# Altium footprint library connectors.PcbLib: 68 footprints (part 4 of 5)
Each footprint in its own frame and in the unit in brackets; x right, y up, seen from the top. Pads: shape width x height; smd on the part's side, far side on the other; paste and mask are expansions set on the pad; w line width, h text height; cw(c..) or ccw(c..) is an arc to the next point about the centre after c.
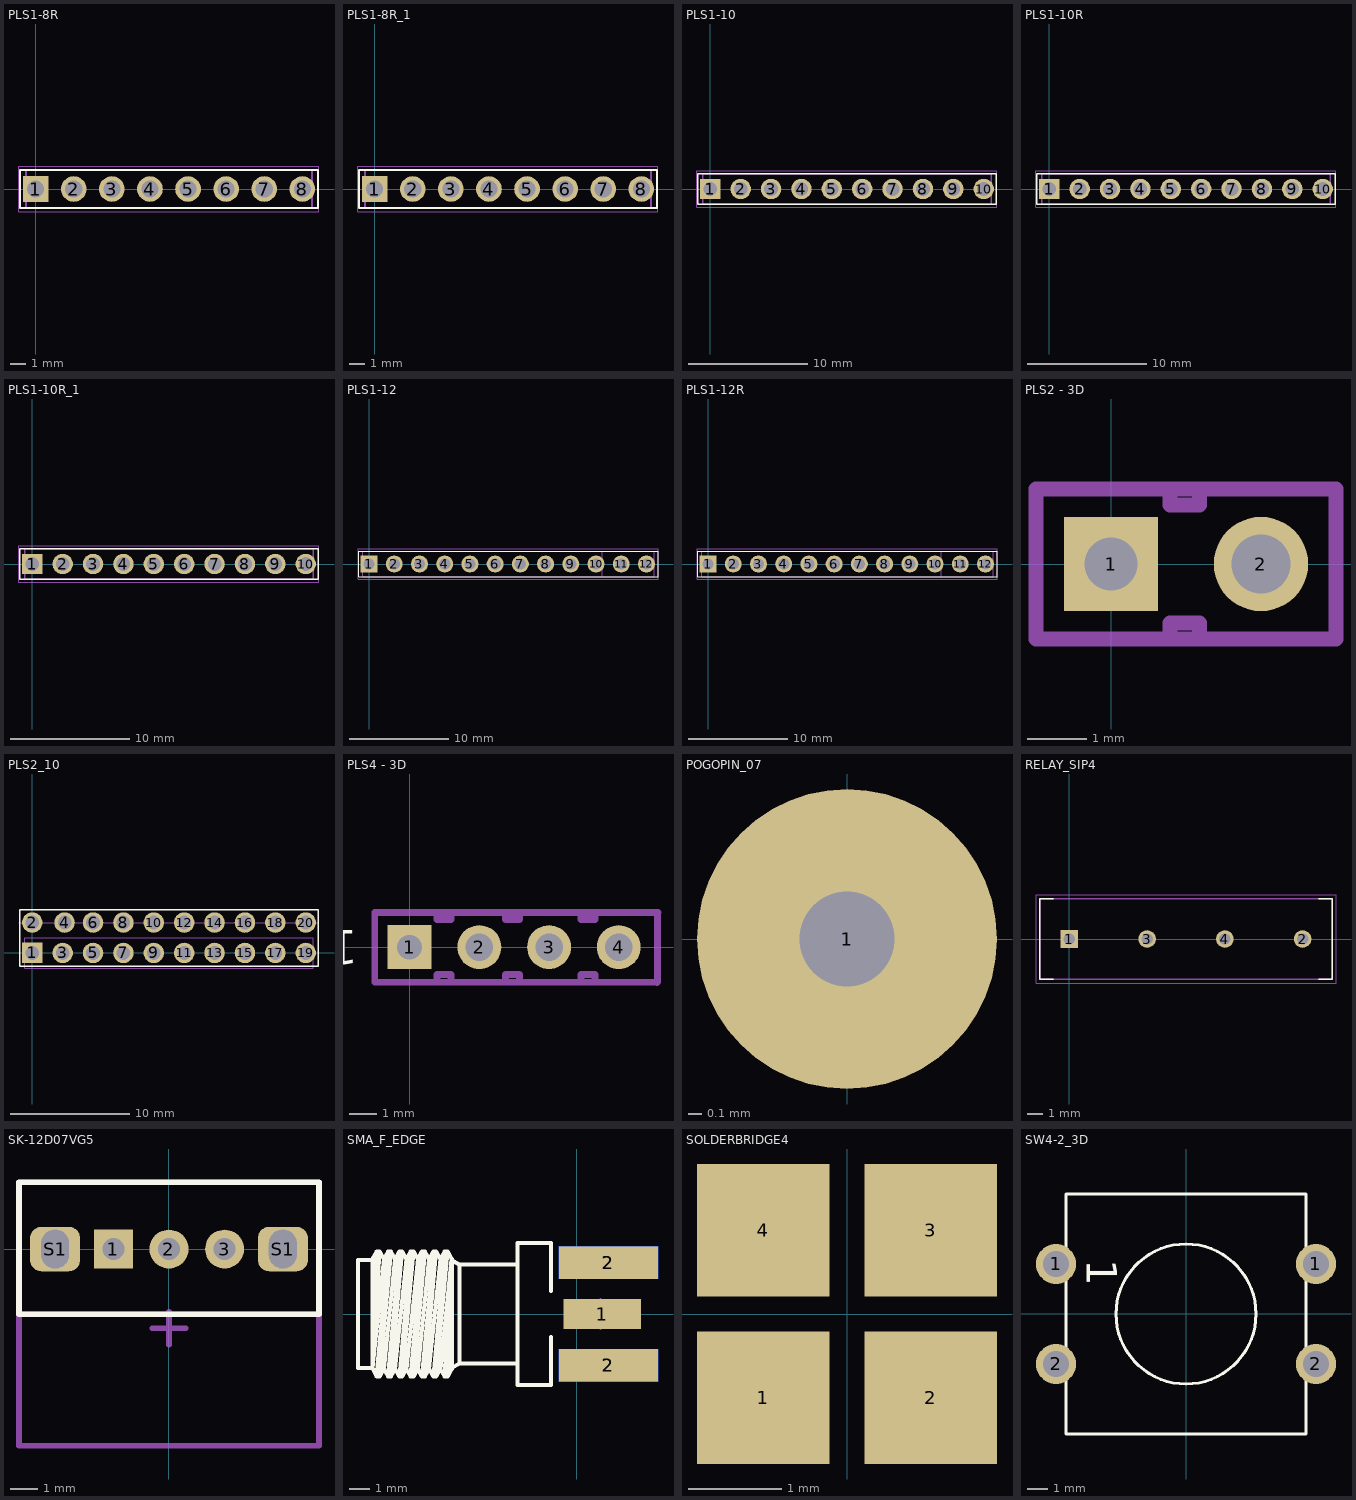
[diagram p3: the footprints below, top view; thin cyan lines are the x and y axes]

## PLS1-8R [mm] "Header, Vertical, 2.54 mm pitch; 0.70 mm lead width, 8 pins, 1 row, 8 pins per row, 19.05 mm L X 2.54 mm W X 7.54 mm H body"
height 7.54
pads (8):
  rect 1.71x1.71 hole 1.14 paste-2539.97: 1(0,0)
  round 1.71 hole 1.14 paste-2539.97: 2(2.54,0) 3(5.08,0) 4(7.62,0) 5(10.16,0) 6(12.7,0) 7(15.24,0) 8(17.78,0)
Top Overlay:
  lines w0.12: -1.04,-1.27 -1.04,1.27 18.82,1.27 18.82,-1.27 -1.04,-1.27
Mechanical 11:
  lines w0.12: -0.64,-1.27 -0.64,1.27 18.42,1.27 18.42,-1.27 -0.64,-1.27
Mechanical 12:
  lines w0.025: -0.635,-1.27 -0.635,1.27 18.415,1.27 18.415,-1.27 -0.635,-1.27 ; -0.35,-0.35 -0.35,0.35 0.35,0.35 0.35,-0.35 -0.35,-0.35 ; 2.19,-0.35 2.19,0.35 2.89,0.35 2.89,-0.35 2.19,-0.35 ; 4.73,-0.35 4.73,0.35 5.43,0.35 5.43,-0.35 4.73,-0.35 ; 7.27,-0.35 7.27,0.35 7.97,0.35 7.97,-0.35 7.27,-0.35 ; 9.81,-0.35 9.81,0.35 10.51,0.35 10.51,-0.35 9.81,-0.35 ; 12.35,-0.35 12.35,0.35 13.05,0.35 13.05,-0.35 12.35,-0.35 ; 14.89,-0.35 14.89,0.35 15.59,0.35 15.59,-0.35 14.89,-0.35 ; 17.43,-0.35 17.43,0.35 18.13,0.35 18.13,-0.35 17.43,-0.35
Mechanical 15:
  circle w0.05: c0,0 r0.25
  lines w0.05: -0.35,0 0.35,0 ; 0,-0.35 0,0.35 ; -1.11,-1.52 -1.11,1.52 18.89,1.52 18.89,-1.52 -1.11,-1.52
3D body "PinHeader_1x08_P2.54mm_Horizontal.step": height 2.54, standoff -3, extent -1.27,-10.04 19.05,0.32

## PLS1-8R_1 [mm] "Header, Vertical, 2.54 mm pitch; 0.70 mm lead width, 8 pins, 1 row, 8 pins per row, 19.05 mm L X 2.54 mm W X 7.54 mm H body"
height 7.54
pads (8):
  rect 1.71x1.71 hole 1.14 paste-2539.97: 1(0,0)
  round 1.71 hole 1.14 paste-2539.97: 2(2.54,0) 3(5.08,0) 4(7.62,0) 5(10.16,0) 6(12.7,0) 7(15.24,0) 8(17.78,0)
Top Overlay:
  lines w0.12: -1.04,-1.27 18.82,-1.27 18.82,1.27 -1.04,1.27 -1.04,-1.27
Mechanical 11:
  lines w0.12: -0.64,-1.27 18.42,-1.27 18.42,1.27 -0.64,1.27 -0.64,-1.27
Mechanical 12:
  lines w0.025: -0.635,-1.27 18.415,-1.27 18.415,1.27 -0.635,1.27 -0.635,-1.27 ; -0.35,-0.35 0.35,-0.35 0.35,0.35 -0.35,0.35 -0.35,-0.35 ; 2.19,-0.35 2.89,-0.35 2.89,0.35 2.19,0.35 2.19,-0.35 ; 4.73,-0.35 5.43,-0.35 5.43,0.35 4.73,0.35 4.73,-0.35 ; 7.27,-0.35 7.97,-0.35 7.97,0.35 7.27,0.35 7.27,-0.35 ; 9.81,-0.35 10.51,-0.35 10.51,0.35 9.81,0.35 9.81,-0.35 ; 12.35,-0.35 13.05,-0.35 13.05,0.35 12.35,0.35 12.35,-0.35 ; 14.89,-0.35 15.59,-0.35 15.59,0.35 14.89,0.35 14.89,-0.35 ; 17.43,-0.35 18.13,-0.35 18.13,0.35 17.43,0.35 17.43,-0.35
Mechanical 15:
  circle w0.05: c0,0 r0.25
  lines w0.05: -0.35,0 0.35,0 ; 0,-0.35 0,0.35 ; -1.11,-1.52 18.89,-1.52 18.89,1.52 -1.11,1.52 -1.11,-1.52
3D body "PinHeader_1x08_P2.54mm_Horizontal.step": height 2.54, standoff -3, extent -1.27,-0.32 19.05,10.04

## PLS1-10 [mm] "Header, Vertical, 2.54 mm pitch; 0.70 mm lead width, 10 pins, 1 row, 10 pins per row, 24.13 mm L X 2.54 mm W X 7.54 mm H body"
height 7.54
pads (10):
  rect 1.71x1.71 hole 1.14 paste-2539.97: 1(0,0)
  round 1.71 hole 1.14 paste-2539.97: 2(2.54,0) 3(5.08,0) 4(7.62,0) 5(10.16,0) 6(12.7,0) 7(15.24,0) 8(17.78,0) 9(20.32,0) 10(22.86,0)
Top Overlay:
  lines w0.12: -1.04,-1.27 -1.04,1.27 23.9,1.27 23.9,-1.27 -1.04,-1.27
Mechanical 11:
  lines w0.12: -0.64,-1.27 -0.64,1.27 23.5,1.27 23.5,-1.27 -0.64,-1.27
Mechanical 12:
  lines w0.025: -0.635,-1.27 -0.635,1.27 23.495,1.27 23.495,-1.27 -0.635,-1.27 ; -0.35,-0.35 -0.35,0.35 0.35,0.35 0.35,-0.35 -0.35,-0.35 ; 2.19,-0.35 2.19,0.35 2.89,0.35 2.89,-0.35 2.19,-0.35 ; 4.73,-0.35 4.73,0.35 5.43,0.35 5.43,-0.35 4.73,-0.35 ; 7.27,-0.35 7.27,0.35 7.97,0.35 7.97,-0.35 7.27,-0.35 ; 9.81,-0.35 9.81,0.35 10.51,0.35 10.51,-0.35 9.81,-0.35 ; 12.35,-0.35 12.35,0.35 13.05,0.35 13.05,-0.35 12.35,-0.35 ; 14.89,-0.35 14.89,0.35 15.59,0.35 15.59,-0.35 14.89,-0.35 ; 17.43,-0.35 17.43,0.35 18.13,0.35 18.13,-0.35 17.43,-0.35 ; 19.97,-0.35 19.97,0.35 20.67,0.35 20.67,-0.35 19.97,-0.35 ; 22.51,-0.35 22.51,0.35 23.21,0.35 23.21,-0.35 22.51,-0.35
Mechanical 15:
  circle w0.05: c0,0 r0.25
  lines w0.05: -0.35,0 0.35,0 ; 0,-0.35 0,0.35 ; -1.11,-1.52 -1.11,1.52 23.97,1.52 23.97,-1.52 -1.11,-1.52
3D body "HDRV10W70P254_10X1_2413X254H754.STEP": height 7.54, standoff -2.3, extent -0.635,-1.27 23.495,1.27

## PLS1-10R [mm] "Header, Vertical, 2.54 mm pitch; 0.70 mm lead width, 10 pins, 1 row, 10 pins per row, 24.13 mm L X 2.54 mm W X 7.54 mm H body"
height 7.54
pads (10):
  rect 1.71x1.71 hole 1.14 paste-2539.97: 1(0,0)
  round 1.71 hole 1.14 paste-2539.97: 2(2.54,0) 3(5.08,0) 4(7.62,0) 5(10.16,0) 6(12.7,0) 7(15.24,0) 8(17.78,0) 9(20.32,0) 10(22.86,0)
Top Overlay:
  lines w0.12: -1.04,-1.27 -1.04,1.27 23.9,1.27 23.9,-1.27 -1.04,-1.27
Mechanical 11:
  lines w0.12: -0.64,-1.27 -0.64,1.27 23.5,1.27 23.5,-1.27 -0.64,-1.27
Mechanical 12:
  lines w0.025: -0.635,-1.27 -0.635,1.27 23.495,1.27 23.495,-1.27 -0.635,-1.27 ; -0.35,-0.35 -0.35,0.35 0.35,0.35 0.35,-0.35 -0.35,-0.35 ; 2.19,-0.35 2.19,0.35 2.89,0.35 2.89,-0.35 2.19,-0.35 ; 4.73,-0.35 4.73,0.35 5.43,0.35 5.43,-0.35 4.73,-0.35 ; 7.27,-0.35 7.27,0.35 7.97,0.35 7.97,-0.35 7.27,-0.35 ; 9.81,-0.35 9.81,0.35 10.51,0.35 10.51,-0.35 9.81,-0.35 ; 12.35,-0.35 12.35,0.35 13.05,0.35 13.05,-0.35 12.35,-0.35 ; 14.89,-0.35 14.89,0.35 15.59,0.35 15.59,-0.35 14.89,-0.35 ; 17.43,-0.35 17.43,0.35 18.13,0.35 18.13,-0.35 17.43,-0.35 ; 19.97,-0.35 19.97,0.35 20.67,0.35 20.67,-0.35 19.97,-0.35 ; 22.51,-0.35 22.51,0.35 23.21,0.35 23.21,-0.35 22.51,-0.35
Mechanical 15:
  circle w0.05: c0,0 r0.25
  lines w0.05: -0.35,0 0.35,0 ; 0,-0.35 0,0.35 ; -1.11,-1.52 -1.11,1.52 23.97,1.52 23.97,-1.52 -1.11,-1.52
3D body "PinHeader_1x10_P2.54mm_Horizontal.step": height 2.54, standoff -3, extent -1.27,-10.04 24.13,0.32

## PLS1-10R_1 [mm] "Header, Vertical, 2.54 mm pitch; 0.70 mm lead width, 10 pins, 1 row, 10 pins per row, 24.13 mm L X 2.54 mm W X 7.54 mm H body"
height 7.54
pads (10):
  rect 1.71x1.71 hole 1.14 paste-2539.97: 1(0,0)
  round 1.71 hole 1.14 paste-2539.97: 2(2.54,0) 3(5.08,0) 4(7.62,0) 5(10.16,0) 6(12.7,0) 7(15.24,0) 8(17.78,0) 9(20.32,0) 10(22.86,0)
Top Overlay:
  lines w0.12: -1.04,-1.27 23.9,-1.27 23.9,1.27 -1.04,1.27 -1.04,-1.27
Mechanical 11:
  lines w0.12: -0.64,-1.27 23.5,-1.27 23.5,1.27 -0.64,1.27 -0.64,-1.27
Mechanical 12:
  lines w0.025: -0.635,-1.27 23.495,-1.27 23.495,1.27 -0.635,1.27 -0.635,-1.27 ; -0.35,-0.35 0.35,-0.35 0.35,0.35 -0.35,0.35 -0.35,-0.35 ; 2.19,-0.35 2.89,-0.35 2.89,0.35 2.19,0.35 2.19,-0.35 ; 4.73,-0.35 5.43,-0.35 5.43,0.35 4.73,0.35 4.73,-0.35 ; 7.27,-0.35 7.97,-0.35 7.97,0.35 7.27,0.35 7.27,-0.35 ; 9.81,-0.35 10.51,-0.35 10.51,0.35 9.81,0.35 9.81,-0.35 ; 12.35,-0.35 13.05,-0.35 13.05,0.35 12.35,0.35 12.35,-0.35 ; 14.89,-0.35 15.59,-0.35 15.59,0.35 14.89,0.35 14.89,-0.35 ; 17.43,-0.35 18.13,-0.35 18.13,0.35 17.43,0.35 17.43,-0.35 ; 19.97,-0.35 20.67,-0.35 20.67,0.35 19.97,0.35 19.97,-0.35 ; 22.51,-0.35 23.21,-0.35 23.21,0.35 22.51,0.35 22.51,-0.35
Mechanical 15:
  circle w0.05: c0,0 r0.25
  lines w0.05: -0.35,0 0.35,0 ; 0,-0.35 0,0.35 ; -1.11,-1.52 23.97,-1.52 23.97,1.52 -1.11,1.52 -1.11,-1.52
3D body "PinHeader_1x10_P2.54mm_Horizontal.step": height 2.54, standoff -3, extent -1.27,-0.32 24.13,10.04

## PLS1-12 [mm] "Header, Vertical, 2.54 mm pitch; 0.70 mm lead width, 10 pins, 1 row, 10 pins per row, 24.13 mm L X 2.54 mm W X 7.54 mm H body"
height 7.54
pads (12):
  rect 1.71x1.71 hole 1.14 paste-2539.97: 1(0,0)
  round 1.71 hole 1.14 paste-2539.97: 2(2.54,0) 3(5.08,0) 4(7.62,0) 5(10.16,0) 6(12.7,0) 7(15.24,0) 8(17.78,0) 9(20.32,0) 10(22.86,0) 11(25.4,0) 12(27.94,0)
Top Overlay:
  lines w0.12: -1.04,-1.27 29.1,-1.27 29.1,1.27 -1.04,1.27 -1.04,-1.27
Mechanical 11:
  lines w0.12: -0.64,-1.27 28.7,-1.27 28.7,1.27 -0.64,1.27 -0.64,-1.27
Mechanical 12:
  lines w0.025: -0.635,-1.27 23.495,-1.27 23.495,1.27 -0.635,1.27 -0.635,-1.27 ; -0.35,-0.35 0.35,-0.35 0.35,0.35 -0.35,0.35 -0.35,-0.35 ; 2.19,-0.35 2.89,-0.35 2.89,0.35 2.19,0.35 2.19,-0.35 ; 4.73,-0.35 5.43,-0.35 5.43,0.35 4.73,0.35 4.73,-0.35 ; 7.27,-0.35 7.97,-0.35 7.97,0.35 7.27,0.35 7.27,-0.35 ; 9.81,-0.35 10.51,-0.35 10.51,0.35 9.81,0.35 9.81,-0.35 ; 12.35,-0.35 13.05,-0.35 13.05,0.35 12.35,0.35 12.35,-0.35 ; 14.89,-0.35 15.59,-0.35 15.59,0.35 14.89,0.35 14.89,-0.35 ; 17.43,-0.35 18.13,-0.35 18.13,0.35 17.43,0.35 17.43,-0.35 ; 19.97,-0.35 20.67,-0.35 20.67,0.35 19.97,0.35 19.97,-0.35 ; 22.51,-0.35 23.21,-0.35 23.21,0.35 22.51,0.35 22.51,-0.35
Mechanical 15:
  circle w0.05: c0,0 r0.25
  lines w0.05: -0.35,0 0.35,0 ; 0,-0.35 0,0.35 ; -1.11,-1.52 29.1,-1.52 29.1,1.52 -1.11,1.52 -1.11,-1.52
3D body "PinHeader_1x12_P2.54mm_Vertical.step": height 3, standoff -8.54, extent -1.27,-1.27 29.21,1.27

## PLS1-12R [mm] "Header, Vertical, 2.54 mm pitch; 0.70 mm lead width, 10 pins, 1 row, 10 pins per row, 24.13 mm L X 2.54 mm W X 7.54 mm H body"
height 7.54
pads (12):
  rect 1.71x1.71 hole 1.14 paste-2539.97: 1(0,0)
  round 1.71 hole 1.14 paste-2539.97: 2(2.54,0) 3(5.08,0) 4(7.62,0) 5(10.16,0) 6(12.7,0) 7(15.24,0) 8(17.78,0) 9(20.32,0) 10(22.86,0) 11(25.4,0) 12(27.94,0)
Top Overlay:
  lines w0.12: -1.04,-1.27 -1.04,1.27 29.1,1.27 29.1,-1.27 -1.04,-1.27
Mechanical 11:
  lines w0.12: -0.64,-1.27 -0.64,1.27 28.7,1.27 28.7,-1.27 -0.64,-1.27
Mechanical 12:
  lines w0.025: -0.635,-1.27 -0.635,1.27 23.495,1.27 23.495,-1.27 -0.635,-1.27 ; -0.35,-0.35 -0.35,0.35 0.35,0.35 0.35,-0.35 -0.35,-0.35 ; 2.19,-0.35 2.19,0.35 2.89,0.35 2.89,-0.35 2.19,-0.35 ; 4.73,-0.35 4.73,0.35 5.43,0.35 5.43,-0.35 4.73,-0.35 ; 7.27,-0.35 7.27,0.35 7.97,0.35 7.97,-0.35 7.27,-0.35 ; 9.81,-0.35 9.81,0.35 10.51,0.35 10.51,-0.35 9.81,-0.35 ; 12.35,-0.35 12.35,0.35 13.05,0.35 13.05,-0.35 12.35,-0.35 ; 14.89,-0.35 14.89,0.35 15.59,0.35 15.59,-0.35 14.89,-0.35 ; 17.43,-0.35 17.43,0.35 18.13,0.35 18.13,-0.35 17.43,-0.35 ; 19.97,-0.35 19.97,0.35 20.67,0.35 20.67,-0.35 19.97,-0.35 ; 22.51,-0.35 22.51,0.35 23.21,0.35 23.21,-0.35 22.51,-0.35
Mechanical 15:
  circle w0.05: c0,0 r0.25
  lines w0.05: -0.35,0 0.35,0 ; 0,-0.35 0,0.35 ; -1.11,-1.52 -1.11,1.52 29.1,1.52 29.1,-1.52 -1.11,-1.52
3D body "PinHeader_1x12_P2.54mm_Horizontal.step": height 2.54, standoff -3, extent -1.27,-0.32 29.21,10.04

## PLS2 - 3D [mm]
pads (2):
  rect 1.6x1.6 hole 0.9: 1(0,0)
  round 1.6 hole 1: 2(2.54,0)
Top Assembly:
  lines w0.254: 1,-1.25 1,-1 1.5,-1 1.5,-1.25 ; 1,1.25 1,1 1.5,1 1.5,1.25 ; -1.27,-1.27 -1.27,1.27 3.81,1.27 3.81,-1.27 -1.27,-1.27
3D body "PLS-2.STEP": height 8.8, standoff -3, extent -1.27,-1.27 3.81,1.27

## PLS2_10 [mm] "Header, Vertical, 2.54 mm pitch; 0.70 mm lead width, 10 pins, 1 row, 10 pins per row, 24.13 mm L X 2.54 mm W X 7.54 mm H body"
height 7.54
pads (20):
  rect 1.71x1.71 hole 1.14 paste-2539.97: 1(0,0)
  round 1.71 hole 1.14 paste-2539.97: 2(0,2.54) 3(2.54,0) 4(2.7,2.54) 5(5.08,0) 6(5.08,2.54) 7(7.62,0) 8(7.62,2.54) 9(10.16,0) 10(10.16,2.54) 11(12.7,0) 12(12.7,2.54) 13(15.24,0) 14(15.24,2.54) 15(17.78,0) 16(17.78,2.54) 17(20.32,0) 18(20.32,2.54) 19(22.86,0) 20(22.86,2.54)
Top Overlay:
  lines w0.12: -1.04,-1.1 -1.04,3.6 23.9,3.6 23.9,-1.1 -1.04,-1.1
Mechanical 12:
  lines w0.025: -0.635,-1.27 -0.635,1.27 23.495,1.27 23.495,-1.27 -0.635,-1.27 ; -0.35,-0.35 -0.35,0.35 0.35,0.35 0.35,-0.35 -0.35,-0.35 ; 2.19,-0.35 2.19,0.35 2.89,0.35 2.89,-0.35 2.19,-0.35 ; 4.73,-0.35 4.73,0.35 5.43,0.35 5.43,-0.35 4.73,-0.35 ; 7.27,-0.35 7.27,0.35 7.97,0.35 7.97,-0.35 7.27,-0.35 ; 9.81,-0.35 9.81,0.35 10.51,0.35 10.51,-0.35 9.81,-0.35 ; 12.35,-0.35 12.35,0.35 13.05,0.35 13.05,-0.35 12.35,-0.35 ; 14.89,-0.35 14.89,0.35 15.59,0.35 15.59,-0.35 14.89,-0.35 ; 17.43,-0.35 17.43,0.35 18.13,0.35 18.13,-0.35 17.43,-0.35 ; 19.97,-0.35 19.97,0.35 20.67,0.35 20.67,-0.35 19.97,-0.35 ; 22.51,-0.35 22.51,0.35 23.21,0.35 23.21,-0.35 22.51,-0.35
Mechanical 15:
  circle w0.05: c0,0 r0.25
  lines w0.05: -1.11,2.54 23.97,2.54 ; -0.35,0 0.35,0 ; 0,-0.35 0,0.35
3D body "PinHeader_2x10_P2.54mm_Vertical.step": height 8.54, standoff -3, extent -1.27,-1.27 24.13,3.81

## PLS4 - 3D [mm]
pads (4):
  rect 1.6x1.6 hole 0.9: 1(0,0)
  round 1.6 hole 1: 2(2.54,0) 3(5.08,0) 4(7.62,0)
Top Overlay:
  text "1" at -1.88,0.625 h1.25
Top Assembly:
  lines w0.254: 1,-1.25 1,-1 1.5,-1 1.5,-1.25 ; 1,1.25 1,1 1.5,1 1.5,1.25 ; 3.5,-1.25 3.5,-1 4,-1 4,-1.25 ; 3.5,1.25 3.5,1 4,1 4,1.25 ; 6.25,-1.25 6.25,-1 6.75,-1 6.75,-1.25 ; 6.25,1.25 6.25,1 6.75,1 6.75,1.25 ; 9.02,-1.28 -1.27,-1.27 -1.27,1.27 9.05,1.27 ; 9.03,-1.27 9.03,1.27
3D body "PLS-4.STEP": height 8.8, standoff -3, extent -1.27,-1.27 8.89,1.27

## POGOPIN_07 [mm]
pads (1):
  round 2.2 hole 0.7: 1(0,0)
3D body "Pogo_pins_P75-B1.stp": height 15, standoff -1.44, extent -0.506,-0.509 0.51,0.509

## RELAY_SIP4 [mm] "SIP, 5.08 mm pitch; 4 pin, 19.10 mm L X 5.25 mm W X 8.10 mm H body"
height 8.1
pads (4):
  rect 1.15x1.15 hole 0.75 paste-2539.97: 1(0,0)
  round 1.15 hole 0.75 paste-2539.97: 2(15.24,0) 3(5.08,0) 4(10.16,0)
Top Overlay:
  lines w0.12: -1.08,-2.63 -1.93,-2.63 -1.93,2.63 -1.08,2.63 ; 16.32,-2.63 17.17,-2.63 17.17,2.63 16.32,2.63
Mechanical 11:
  lines w0.12: -1.93,-2.63 -1.93,2.63 17.17,2.63 17.17,-2.63 -1.93,-2.63
Mechanical 12:
  lines w0.025: -1.93,-2.625 -1.93,2.625 17.17,2.625 17.17,-2.625 -1.93,-2.625 ; -0.255,-0.155 0.255,-0.155 0.255,0.155 -0.255,0.155 -0.255,-0.155 ; 4.825,-0.155 5.335,-0.155 5.335,0.155 4.825,0.155 4.825,-0.155 ; 9.905,-0.155 10.415,-0.155 10.415,0.155 9.905,0.155 9.905,-0.155 ; 14.985,-0.155 15.495,-0.155 15.495,0.155 14.985,0.155 14.985,-0.155
Mechanical 15:
  circle w0.05: c0,0 r0.25
  lines w0.05: -0.35,0 0.35,0 ; 0,-0.35 0,0.35 ; -2.18,-2.88 -2.18,2.88 17.42,2.88 17.42,-2.88 -2.18,-2.88
3D body "SIP525W46P508L1910H810Q4.STEP": height 8.1, standoff -2, extent -1.93,-2.625 17.17,2.625

## SK-12D07VG5 [mm]
pads (5):
  rect 1.4x1.4 hole 0.8: 1(-2,0)
  round 1.4 hole 0.8: 2(0,0) 3(2,0)
  rrect50% 1.8x1.6 hole 1 slot 1.4 at 90 deg: S1(-4.1,0) S1(4.1,0)
Top Overlay:
  lines w0.2: -5.4,-2.35 5.4,-2.35 5.4,2.4 -5.4,2.4 -5.4,-2.35
Top Assembly:
  lines w0.2: -5.4,-2.35 5.4,-2.35 ; -5.4,-2.15 -5.4,-7.075 5.4,-7.075 5.4,-2.15 ; -5.4,-1.884 -5.4,2.4 5.4,2.4 ; -0.6,-2.85 0.6,-2.85 ; 0,-3.45 0,-2.25 ; 5.4,-1.851 5.4,2.15
3D body "SK-12Do7-VG 4 NS PA (2).STEP": height 4.75, standoff -2.65, extent -4.3,-7.05 4.3,2.3

## SMA_F_EDGE [mm] "SMA End Launch Jack for 1.58mm PCB, 50 Ohm, Flat Tab Contact"
height 7.92
pads (5):
  rect 3.81x1.5 smd: 1(1.27,0)
  rect 4.9x1.6 smd far side: 2(1.575,-2.54) 2(1.575,2.54)
  rect 4.9x1.6 smd: 2(1.575,-2.54) 2(1.575,2.54)
Top Overlay:
  lines w0.2: -10.09,2.665 -10.805,2.665 -10.805,-2.665 -10.09,-2.665 ; -6.17,-2.665 -5.795,-2.453 ; -2.925,-2.453 -5.795,-2.453 ; -2.925,2.447 -5.795,2.447 ; -1.275,-1.137 -1.275,-3.5 -2.925,-3.5 -2.925,3.5 -1.275,3.5 -1.275,1.137 ; -10.09,-2.665 -10.09,2.715 -9.879,3.094 ; -10.09,-2.665 -9.879,-3.094 ; -10.09,-2.665 -9.53,2.715 ; -10.09,-2.665 -9.741,3.094 ; -10.09,-2.665 -9.879,3.094 ; -9.879,-3.094 -9.741,-3.094 ; -9.879,-3.094 -9.319,3.094 ; -9.879,3.094 -9.741,3.094 ; -9.741,-3.094 -9.53,-2.715 ; -9.741,-3.094 -9.181,3.094 ; -9.741,3.094 -9.53,2.715 ; -9.53,-2.715 -9.319,-3.094 ; -9.53,-2.715 -8.97,2.715 ; -9.53,2.715 -9.319,3.094 ; -9.319,-3.094 -9.181,-3.094 ; -9.319,-3.094 -8.759,3.094 ; -9.319,3.094 -9.181,3.094 ; -9.181,-3.094 -8.97,-2.715 ; -9.181,-3.094 -8.621,3.094 ; -9.181,3.094 -8.97,2.715 ; -8.97,-2.715 -8.759,-3.094 ; -8.97,-2.715 -8.41,2.715 ; -8.97,2.715 -8.759,3.094 ; -8.759,-3.094 -8.621,-3.094 ; -8.759,-3.094 -8.199,3.094 ; -8.759,3.094 -8.621,3.094 ; -8.621,-3.094 -8.41,-2.715 ; -8.621,-3.094 -8.061,3.094 ; -8.621,3.094 -8.41,2.715 ; -8.41,-2.715 -8.199,-3.094 ; -8.41,-2.715 -7.85,2.715 ; -8.41,2.715 -8.199,3.094 ; -8.199,-3.094 -8.061,-3.094 ; -8.199,-3.094 -7.639,3.094 ; -8.199,3.094 -8.061,3.094 ; -8.061,-3.094 -7.85,-2.715 ; -8.061,-3.094 -7.501,3.094 ; -8.061,3.094 -7.85,2.715 ; -7.85,-2.715 -7.639,-3.094 ; -7.85,-2.715 -7.29,2.715 ; -7.85,2.715 -7.639,3.094 ; -7.639,-3.094 -7.501,-3.094 ; -7.639,-3.094 -7.079,3.094 ; -7.639,3.094 -7.501,3.094 ; -7.501,-3.094 -7.29,-2.715 ; -7.501,-3.094 -6.941,3.094 ; -7.501,3.094 -7.29,2.715 ; -7.29,-2.715 -7.079,-3.094 ; -7.29,-2.715 -6.73,2.715 ; -7.29,2.715 -7.079,3.094 ; -7.079,-3.094 -6.941,-3.094 ; -7.079,-3.094 -6.519,3.094 ; -7.079,3.094 -6.941,3.094 ; -6.941,-3.094 -6.73,-2.715 ; -6.941,-3.094 -6.381,3.094 ; -6.941,3.094 -6.73,2.715 ; -6.73,-2.715 -6.519,-3.094 ; -6.73,-2.715 -6.17,2.713 ; -6.73,2.715 -6.519,3.094 ; -6.519,-3.094 -6.381,-3.094 ; -6.519,-3.094 -6.17,2.713 ; -6.519,3.094 -6.381,3.094 ; -6.381,-3.094 -6.17,-2.715 -6.17,2.713 ; -6.381,-3.094 -6.17,2.665 -5.795,2.447 ; -6.381,3.094 -6.17,2.713 ; -5.795,-2.453 -5.795,2.447
Bottom Assembly:
  lines w0.1: -0.5,0 0,0 ; 0,-0.5 0,0 ; 0,0.5 0,0 ; 0.5,0 0,0 ; 1.175,-0.75 1.175,0.75
Mechanical 14:
  lines w0.1: -10.09,2.665 -10.805,2.665 -10.805,-2.665 -10.09,-2.665 ; -6.17,-2.665 -5.795,-2.453 ; -2.925,-2.453 -5.795,-2.453 ; -2.925,2.447 -5.795,2.447 ; 0.635,-0.251 0.635,0.251 ; -10.09,-2.665 -10.09,2.715 -9.879,3.094 ; -10.09,-2.665 -9.879,-3.094 ; -10.09,-2.665 -9.53,2.715 ; -10.09,-2.665 -9.741,3.094 ; -10.09,-2.665 -9.879,3.094 ; -9.879,-3.094 -9.741,-3.094 ; -9.879,-3.094 -9.319,3.094 ; -9.879,3.094 -9.741,3.094 ; -9.741,-3.094 -9.53,-2.715 ; -9.741,-3.094 -9.181,3.094 ; -9.741,3.094 -9.53,2.715 ; -9.53,-2.715 -9.319,-3.094 ; -9.53,-2.715 -8.97,2.715 ; -9.53,2.715 -9.319,3.094 ; -9.319,-3.094 -9.181,-3.094 ; -9.319,-3.094 -8.759,3.094 ; -9.319,3.094 -9.181,3.094 ; -9.181,-3.094 -8.97,-2.715 ; -9.181,-3.094 -8.621,3.094 ; -9.181,3.094 -8.97,2.715 ; -8.97,-2.715 -8.759,-3.094 ; -8.97,-2.715 -8.41,2.715 ; -8.97,2.715 -8.759,3.094 ; -8.759,-3.094 -8.621,-3.094 ; -8.759,-3.094 -8.199,3.094 ; -8.759,3.094 -8.621,3.094 ; -8.621,-3.094 -8.41,-2.715 ; -8.621,-3.094 -8.061,3.094 ; -8.621,3.094 -8.41,2.715 ; -8.41,-2.715 -8.199,-3.094 ; -8.41,-2.715 -7.85,2.715 ; -8.41,2.715 -8.199,3.094 ; -8.199,-3.094 -8.061,-3.094 ; -8.199,-3.094 -7.639,3.094 ; -8.199,3.094 -8.061,3.094 ; -8.061,-3.094 -7.85,-2.715 ; -8.061,-3.094 -7.501,3.094 ; -8.061,3.094 -7.85,2.715 ; -7.85,-2.715 -7.639,-3.094 ; -7.85,-2.715 -7.29,2.715 ; -7.85,2.715 -7.639,3.094 ; -7.639,-3.094 -7.501,-3.094 ; -7.639,-3.094 -7.079,3.094 ; -7.639,3.094 -7.501,3.094 ; -7.501,-3.094 -7.29,-2.715 ; -7.501,-3.094 -6.941,3.094 ; -7.501,3.094 -7.29,2.715 ; -7.29,-2.715 -7.079,-3.094 ; -7.29,-2.715 -6.73,2.715 ; -7.29,2.715 -7.079,3.094 ; -7.079,-3.094 -6.941,-3.094 ; -7.079,-3.094 -6.519,3.094 ; -7.079,3.094 -6.941,3.094 ; -6.941,-3.094 -6.73,-2.715 ; -6.941,-3.094 -6.381,3.094 ; -6.941,3.094 -6.73,2.715 ; -6.73,-2.715 -6.519,-3.094 ; -6.73,-2.715 -6.17,2.713 ; -6.73,2.715 -6.519,3.094 ; -6.519,-3.094 -6.381,-3.094 ; -6.519,-3.094 -6.17,2.713 ; -6.519,3.094 -6.381,3.094 ; -6.381,-3.094 -6.17,-2.715 -6.17,2.713 ; -6.381,-3.094 -6.17,2.665 -5.795,2.447 ; -6.381,3.094 -6.17,2.713 ; -5.795,-2.453 -5.795,2.447
3D body "SMA_female_edge_6.5x6.5.step": height 3.7, standoff -2.8, extent -10.73,-3.25 2.77,3.25

## SOLDERBRIDGE4 [mm]
pads (4):
  rect 1.425x1.425 smd paste+0: 1(-0.9,-0.9) 2(0.9,-0.9) 3(0.9,0.9) 4(-0.9,0.9)

## SW4-2_3D [mm]
pads (4):
  round 2 hole 1.3: 1(-6.5,2.5) 1(6.5,2.5) 2(-6.5,-2.5) 2(6.5,-2.5)
Top Overlay:
  circle w0.15: c0,0 r3.5
  lines w0.15: -6,-6 6,-6 6,6 -6,6 -6,-6
  text "1" at -4.95,2.74 h1.52
3D body "TC-12EF.STEP": height 12, standoff -3.5, extent -6.934,-6 6.934,6